# Altium footprint library Activ.PcbLib: 4 footprints
Each footprint in its own frame and in the unit in brackets; x right, y up, seen from the top. Pads: shape width x height; smd on the part's side, far side on the other; paste and mask are expansions set on the pad; w line width, h text height; cw(c..) or ccw(c..) is an arc to the next point about the centre after c.
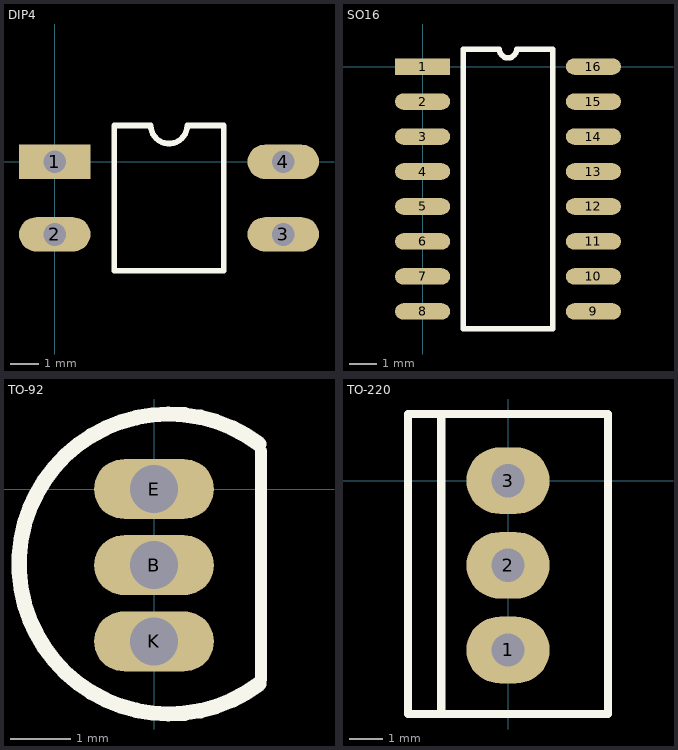
[diagram p0: the footprints below, top view; thin cyan lines are the x and y axes]

## DIP4 [mm]
pads (4):
  rect 2.5x1.2 hole 0.8: 1(0,0)
  oval 2.5x1.2 hole 0.8: 2(0,-2.54) 3(8,-2.54) 4(8,0)
Top Overlay:
  lines w0.2: 2.085,-3.81 2.085,1.27 3.365,1.27 ccw(c4,1.27) 4.635,1.27 5.915,1.27 5.915,-3.81 2.085,-3.81

## SO16 [mm] "D"
pads (16):
  rect 2x0.6 smd: 1(0,0)
  oval 2x0.6 smd: 2(0,-1.27) 3(0,-2.54) 4(0,-3.81) 5(0,-5.08) 6(0,-6.35) 7(0,-7.62) 8(0,-8.89) 9(6.2,-8.89) 10(6.2,-7.62) 11(6.2,-6.35) 12(6.2,-5.08) 13(6.2,-3.81) 14(6.2,-2.54) 15(6.2,-1.27) 16(6.2,0)
Top Overlay:
  lines w0.2: 1.47,-9.525 4.73,-9.525 4.73,0.635 3.417,0.635 cw(c3.1,0.635) 2.782,0.635 1.47,0.635 1.47,-9.525

## TO-92 [mm] "VT"
pads (3):
  oval 2x1 hole 0.8: B(0,-1.27) E(0,0) K(0,-2.54)
Top Overlay:
  lines w0.2: 1.78,-3.175 1.78,0.635
  lines w0.254: 1.75,-3.25 cw(c0.25,-1.25) 1.75,0.75

## TO-220 [mm]
pads (3):
  oval 2.5x2 hole 1: 1(0,-5.08) 2(0,-2.54) 3(0,0)
Top Overlay:
  lines w0.254: -2,-7 -2,2 ; -3,-7 -3,2 3,2 3,-7 -3,-7